# Altium footprint library RGB connector.PcbLib: 1 footprints
Each footprint in its own frame and in the unit in brackets; x right, y up, seen from the top. Pads: shape width x height; smd on the part's side, far side on the other; paste and mask are expansions set on the pad; w line width, h text height; cw(c..) or ccw(c..) is an arc to the next point about the centre after c.
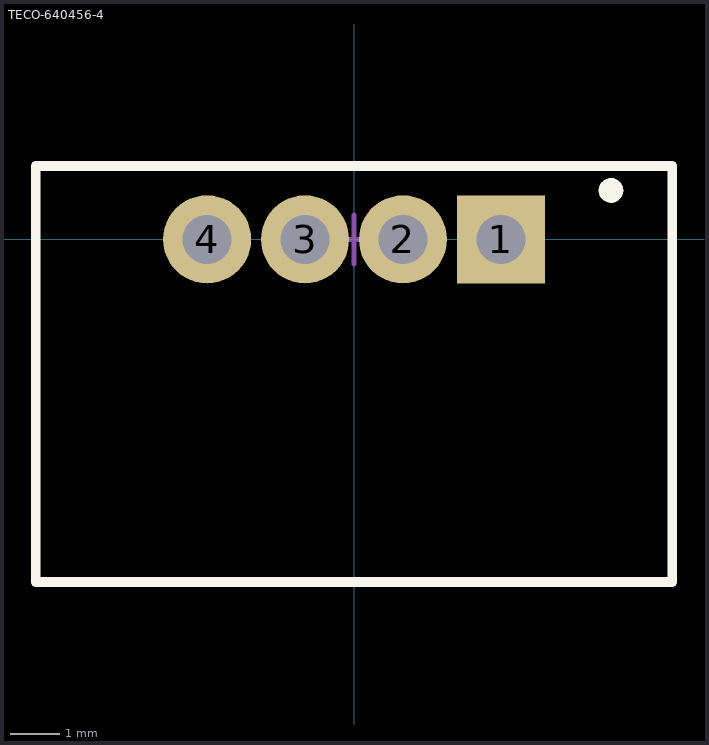
[diagram p0: the footprint, top view; thin cyan lines are the x and y axes]

## TECO-640456-4 [mm] "Through Hole, 4-Leads, Body 10.16x5.72mm, Pitch 2.54mm"
height 10.03
pads (4):
  rect 1.8x1.8 hole 1 paste+0 mask+0.08: 1(3,0)
  round 1.8 hole 1 paste+0 mask+0.08: 2(1,0) 3(-1,0) 4(-3,0)
Top Overlay:
  circle w0.25: c5.25,1 r0.127
  lines w0.2: -6.5,-7 -6.5,1.5 6.5,1.5 6.5,-7 -6.5,-7
Mechanical 13:
  lines w0.1: -6.5,-7 6.5,-7 6.5,1.5 -6.5,1.5 -6.5,-7
Mechanical 15:
  lines w0.05: -6.5,-7 -6.5,1.5 6.5,1.5 6.5,-7 -6.5,-7
  lines w0.1: -0.5,0 0.5,0 ; 0,-0.5 0,0.5
3D body "User Library-B4B-PH-SM4(LF)(SN).STEP": height 5.01, standoff -1.99, extent -5.975,-6.35 5.975,0.25